# EAGLE library part DS1307Z+ (library IC)
IC RTC CLK/CALENDAR I2C 8-SOIC Manufacturer's datasheet <https://datasheets.maximintegrated.com/en/ds/DS1307.pdf>
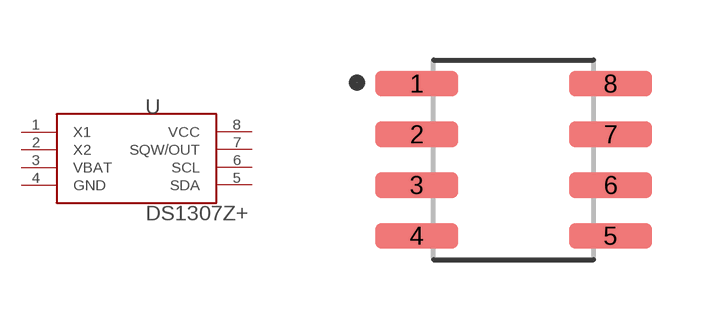
[diagram p7: symbol with the pads of SOIC-8N; footprint SOIC-8N]

Designator prefix U

## DS1307Z+ (CREATED_BY: PCBLayout.com; DIGI-KEY_PART_NUMBER: DS1307Z+-ND; MANUFACTURER: Maxim Integrated; MPN: DS1307Z+; PACKAGE: SOIC-8)  [SOIC-8N]
1  X1  pas
2  X2  pas
3  VBAT  pwr
4  GND  pwr
5  SDA
6  SCL  in
7  SQW/OUT  out
8  VCC  pwr

## Footprint SOIC-8N (pad centres in mm)
Small Outline IC (SOIC), 1.27 mm pitch; 8 pin, 4.90 mm L X 3.90 mm W X 1.75 mm H body PCB Libraries Packages
smd 2.07 x 0.65: 1 -2.425,1.905; 2 -2.425,0.635; 3 -2.425,-0.635; 4 -2.425,-1.905; 5 2.425,-1.905; 6 2.425,-0.635; 7 2.425,0.635; 8 2.425,1.905